# Altium integrated library Relay songle SLA-12VDC-SL-C.IntLib: 1 symbol
Pins are listed as number, name and electrical type; pins without a type are passive.

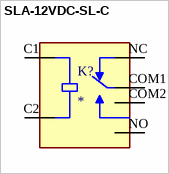
[diagram p0: symbol SLA-12VDC-SL-C]

## SLA-12VDC-SL-C
designator K?
SUBMINATURE HIGH POWER RELAY; MF: Songle Relay; MP: SLA-12VDC-SL-C; SnapEDA_Link: https://www.snapeda.com/parts/SLA-12VDC-SL-C/Songle+Relay/view-part/?ref=snap; Package: None; Value: *; Check_prices: https://www.snapeda.com/parts/SLA-12VDC-SL-C/Songle+Relay/view-part/?ref=eda
footprint RELAY_SLA-12VDC-SL-C
pins: C1 COIL1, C2 COIL2, COM1 COM, COM2 COM, NC, NO